# Altium footprint library Chips.PcbLib: 116 footprints (part 8 of 8)
Each footprint in its own frame and in the unit in brackets; x right, y up, seen from the top. Pads: shape width x height; smd on the part's side, far side on the other; paste and mask are expansions set on the pad; w line width, h text height; cw(c..) or ccw(c..) is an arc to the next point about the centre after c.
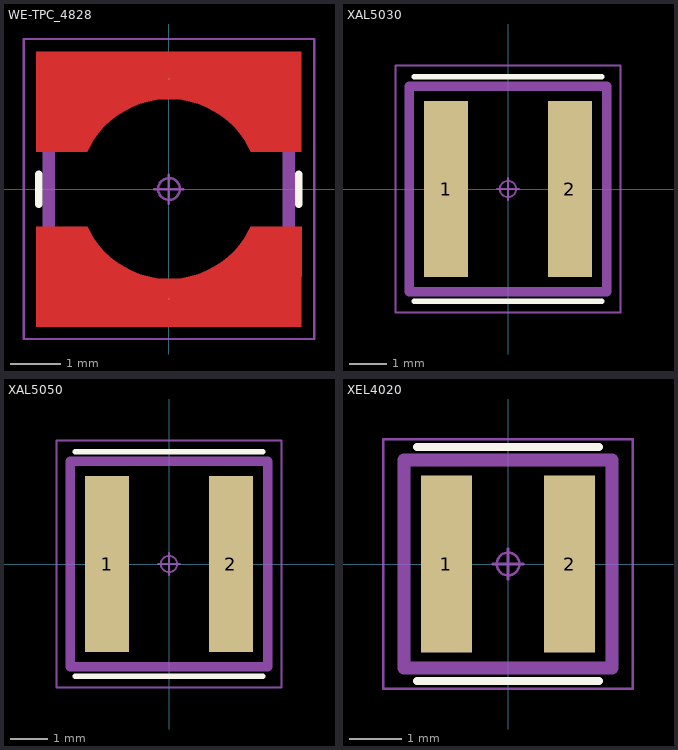
[diagram p7: the footprints below, top view; thin cyan lines are the x and y axes]

## WE-TPC_4828 [mil] "SMT Tiny Power Inductor, body 4.8x4.8x2.8mm"
height 118.11
pads (2):
  round 1 smd: 1(0,86.61) 2(0,-86.61)
Top Layer:
  region: 104.33,-29.53 64.42,-29.53 62.95,-32.56 59.57,-38.38 55.66,-43.87 51.24,-48.95 46.36,-53.6 41.06,-57.76 35.39,-61.39 29.41,-64.48 23.15,-66.98 16.69,-68.87 10.07,-70.15 3.37,-70.79 -3.37,-70.79 -10.07,-70.15 -16.69,-68.87 -23.15,-66.98 -29.41,-64.48 -35.39,-61.39 -41.06,-57.76 -46.36,-53.6 -51.24,-48.95 -55.66,-43.87 -59.57,-38.38 -62.95,-32.56 -64.42,-29.53 -104.33,-29.53 -104.33,-108.27 104.33,-108.27
  region: -104.33,29.53 -64.42,29.53 -62.95,32.56 -59.57,38.38 -55.66,43.87 -51.24,48.95 -46.36,53.6 -41.06,57.76 -35.39,61.39 -29.41,64.48 -23.15,66.98 -16.69,68.87 -10.07,70.15 -3.37,70.79 3.37,70.79 10.07,70.15 16.69,68.87 23.15,66.98 29.41,64.48 35.39,61.39 41.06,57.76 46.36,53.6 51.24,48.95 55.66,43.87 59.57,38.38 62.95,32.56 64.42,29.53 104.33,29.53 104.33,108.27 -104.33,108.27
Top Overlay:
  lines w5.91: -102.36,-11.81 -102.36,11.81 ; 102.36,-11.81 102.36,11.81
Top Assembly:
  lines w9.84: -94.49,-94.49 94.49,-94.49 94.49,94.49 -94.49,94.49 -94.49,-94.49
  text ".Designator" at -133.01,-13.35 h59.06
Top Courtyard:
  circle w1.97: c0,0 r8.56
  lines w1.97: -11.42,0 11.42,0 ; 0,-11.42 0,11.42 ; -114.17,-118.11 114.17,-118.11 114.17,118.11 -114.17,118.11 -114.17,-118.11
3D body "WE-TPC_4828 (rev1).stp": height 110.74, standoff 0.5, extent -94.49,-94.49 94.49,94.49

## XAL5030 [mm] "Coilcraft XAL5030- series"
height 3.1
pads (2):
  rect 1.18x4.7 smd mask+0.102: 1(-1.655,0) 2(1.655,0)
Top Overlay:
  lines w0.15: -2.5,-3 2.5,-3 ; -2.5,3 2.5,3
Top Assembly:
  lines w0.25: -2.64,-2.74 -2.64,2.74 2.64,2.74 2.64,-2.74 -2.64,-2.74
  text ".Designator" at -2.1,-0.3 h1.5
Top Courtyard:
  circle w0.05: c0,0 r0.218
  lines w0.05: -0.29,0 0.29,0 ; 0,-0.29 0,0.29 ; -3,-3.3 3,-3.3 3,3.3 -3,3.3 -3,-3.3
3D body "Coilcraft-XAL5030.step": height 3.11, standoff 0.01, extent -2.74,-2.84 2.74,2.84

## XAL5050 [mm] "Coilcraft XAL5050- series"
height 5.1
pads (2):
  rect 1.18x4.7 smd mask+0.102: 1(-1.655,0) 2(1.655,0)
Top Overlay:
  lines w0.15: -2.5,-3 2.5,-3 ; -2.5,3 2.5,3
Top Assembly:
  lines w0.25: -2.64,-2.74 -2.64,2.74 2.64,2.74 2.64,-2.74 -2.64,-2.74
  text ".Designator" at -2.1,-0.3 h1.5
Top Courtyard:
  circle w0.05: c0,0 r0.218
  lines w0.05: -0.29,0 0.29,0 ; 0,-0.29 0,0.29 ; -3,-3.3 3,-3.3 3,3.3 -3,3.3 -3,-3.3
3D body "Coilcraft-XAL5050.step": height 5.11, standoff 0.01, extent -2.74,-2.84 2.74,2.84

## XEL4020 [mm] "Coilcraft XEL4020- series"
height 2.1
pads (2):
  rect 0.98x3.4 smd mask+0.102: 1(-1.185,0) 2(1.185,0)
Top Overlay:
  lines w0.15: -1.75,-2.25 1.75,-2.25 ; -1.75,2.25 1.75,2.25
Top Assembly:
  lines w0.25: -2,-2 2,-2 2,2 -2,2 -2,-2
  text ".Designator" at -3.378,-0.339 h1.5
Top Courtyard:
  circle w0.05: c0,0 r0.218
  lines w0.05: -0.29,0 0.29,0 ; 0,-0.29 0,0.29 ; -2.4,-2.4 2.4,-2.4 2.4,2.4 -2.4,2.4 -2.4,-2.4
3D body "Coilcraft-XEL4020.step": height 2.11, standoff 0.01, extent -2.15,-2.15 2.15,2.15